# Altium schematic symbol library mySchlib.SchLib: 14 symbols
Pins are listed as number, name and electrical type; pins without a type are passive.

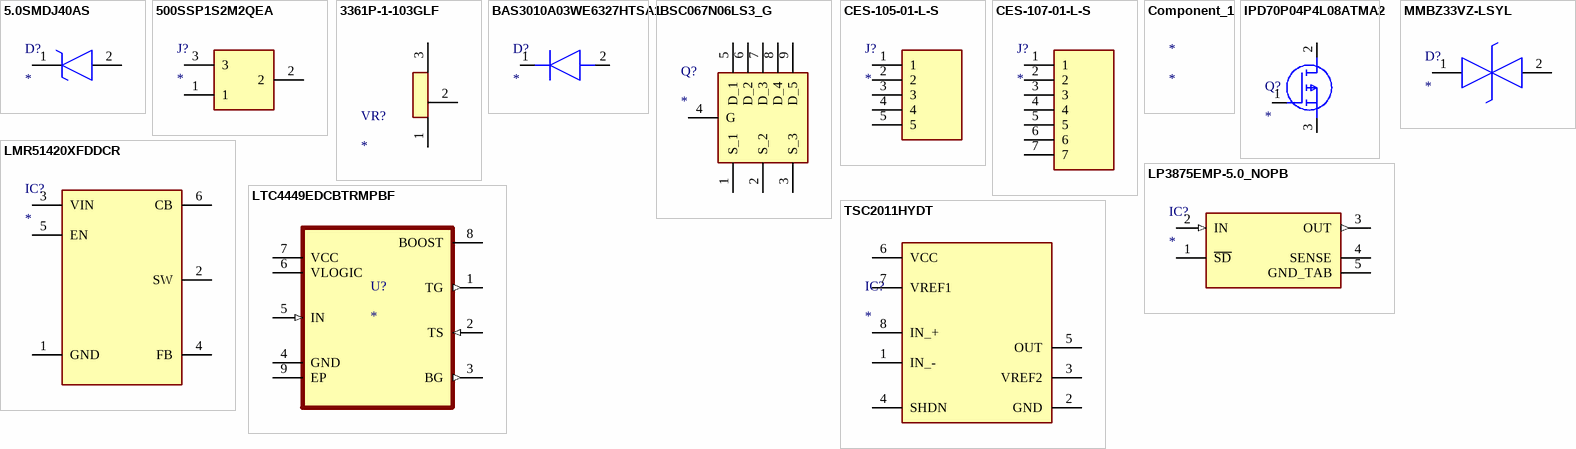
[diagram p0: symbols 5.0SMDJ40AS to TSC2011HYDT]

## 5.0SMDJ40AS
designator D?
TVS Diode (Uni-directional); Manufacturer_Name: LITTELFUSE; Manufacturer_Part_Number: 5.0SMDJ40AS; Datasheet Link: https://www.littelfuse.com/media?resourcetype=datasheets&itemid=23e4c79c-49e8-4c37-8c02-f83eb84de418&filename=littelfuse-tvs-diode-5-0smdjxxs-datasheet; Height: 2.62mm; Mouser Part Number: 576-5.0SMDJ40AS; Mouser Price/Stock: https://www.mouser.co.uk/ProductDetail/Littelfuse/50SMDJ40AS?qs=qSfuJ%252Bfl%2Fd6yLt0VdOZW%252BQ%3D%3D
footprint DIOM7959X262N
footprint DFN200X300X80-9N
pins: 1 K, 2 A

## 500SSP1S2M2QEA
designator J?
Connector; Manufacturer_Name: E-Switch; Manufacturer_Part_Number: 500SSP1S2M2QEA; Datasheet Link: https://configured-product-images.s3.amazonaws.com/2D/specs/500SSP1S2M2QEA.pdf; Height: 6.6mm; Mouser Part Number: 612-500SSP1S2M2QEA; Mouser Price/Stock: https://www.mouser.co.uk/ProductDetail/E-Switch/500SSP1S2M2QEA?qs=f57gQzlyLipU%252BL4xPBemOw%3D%3D
footprint 500SSP1S2M2QEA
pins: 1, 2, 3

## 3361P-1-103GLF
designator VR?
Variable Resistor; Manufacturer_Name: Bourns; Manufacturer_Part_Number: 3361P-1-103GLF; Datasheet Link: https://www.bourns.com/docs/Product-Datasheets/3361.pdf; Height: 5.84mm; Mouser Part Number: 652-3361P-1-103GLF; Mouser Price/Stock: https://www.mouser.co.uk/ProductDetail/Bourns/3361P-1-103GLF?qs=fqIB%2FsSTfTYiaQC8SLZfNQ%3D%3D; Arrow Part Number: 3361P-1-103GLF; Arrow Price/Stock: https://www.arrow.com/en/products/3361p-1-103glf/bourns?region=nac
footprint 3361P1103GLF
pins: 1 CCW, 2 WIPER_, 3 CW

## BAS3010A03WE6327HTSA1
designator D?
Diode; Manufacturer_Name: Infineon; Manufacturer_Part_Number: BAS3010A03WE6327HTSA1; Datasheet Link: https://www.infineon.com/dgdl/Infineon-BAS3010ASERIES-DS-v01_01-en.pdf?fileId=db3a30431ddc9372011dfbc50f231c06; Height: 1.1mm; Mouser Part Number: 726-BAS3010A-03WE6; Mouser Price/Stock: https://www.mouser.co.uk/ProductDetail/Infineon-Technologies/BAS3010A03WE6327HTSA1?qs=K00xGehIljtEbk1%252B2pLZ%252BQ%3D%3D; Arrow Part Number: BAS3010A03WE6327HTSA1; Arrow Price/Stock: https://www.arrow.com/en/products/bas3010a03we6327htsa1/infineon-technologies-ag?region=europe
footprint SOD2513X110N
pins: 1 K, 2 A

## BSC067N06LS3_G
designator Q?
MOSFET (N-Channel); Manufacturer_Name: Infineon; Manufacturer_Part_Number: BSC067N06LS3 G; Datasheet Link: https://www.infineon.com/dgdl/Infineon-BSC067N06LS3-DS-v02_04-en.pdf?fileId=db3a30431ddc9372011ebb01e1b37fb6; Mouser Part Number: 726-BSC067N06LS3G; Mouser Price/Stock: https://www.mouser.co.uk/ProductDetail/Infineon-Technologies/BSC067N06LS3-G?qs=wK%252BoHS4yu56ck0C8i4qYfA%3D%3D
footprint BSC080N03LSG
footprint BSC080N03LSG
pins: 1 S_1, 2 S_2, 3 S_3, 4 G, 5 D_1, 6 D_2, 7 D_3, 8 D_4, 9 D_5

## CES-105-01-L-S
designator J?
Connector; Manufacturer_Name: SAMTEC; Manufacturer_Part_Number: CES-105-01-L-S; Datasheet Link: http://suddendocs.samtec.com/prints/ces-1xx-xx-x-s-xx-mkt.pdf
footprint CES-105-XX-Y-S
pins: 1, 2, 3, 4, 5

## CES-107-01-L-S
designator J?
Connector; Manufacturer_Name: SAMTEC; Manufacturer_Part_Number: CES-107-01-L-S; Datasheet Link: http://suddendocs.samtec.com/prints/ces-1xx-xx-x-s-xx-mkt.pdf
footprint CES-107-XX-Y-S
pins: 1, 2, 3, 4, 5, 6, 7

## Component_1
designator *

## IPD70P04P4L08ATMA2
designator Q?
MOSFET (P-Channel); Manufacturer_Name: Infineon; Manufacturer_Part_Number: IPD70P04P4L08ATMA2; Datasheet Link: https://www.infineon.com/dgdl/Infineon-IPD70P04P4L-08-DataSheet-v01_02-EN.pdf?fileId=db3a30432f69f146012f78225bd32dbf; Height: 2.5mm; Mouser Part Number: 726-IPD70P04P4L08ATM; Mouser Price/Stock: https://www.mouser.co.uk/ProductDetail/Infineon-Technologies/IPD70P04P4L08ATMA2?qs=GBLSl2AkirsG%2F%252BiweZHiEQ%3D%3D
footprint IPD70P04P4L08ATMA2
pins: 1 G, 2 D, 3 S

## LMR51420XFDDCR
designator IC?
Integrated Circuit; Manufacturer_Name: Texas Instruments; Manufacturer_Part_Number: LMR51420XFDDCR; Datasheet Link: https://www.ti.com/lit/ds/symlink/lmr51420.pdf?ts=1662461097045&ref_url=https%253A%252F%252Fwww.ti.com%252Fproduct%252FLMR51420%252Fpart-details%252FLMR51420XFDDCR; Height: 1.1mm; Mouser Part Number: 595-LMR51420XFDDCR; Mouser Price/Stock: https://www.mouser.co.uk/ProductDetail/Texas-Instruments/LMR51420XFDDCR?qs=vvQtp7zwQdMiXKT41134nA%3D%3D; Arrow Part Number: LMR51420XFDDCR; Arrow Price/Stock: https://www.arrow.com/en/products/lmr51420xfddcr/texas-instruments?utm_currency=USD&region=nac
footprint SOT95P280X110-6N
pins: 1 GND, 2 SW, 3 VIN, 4 FB, 5 EN, 6 CB

## LP3875EMP-5.0_NOPB
designator IC?
Integrated Circuit; Manufacturer_Name: Texas Instruments; Manufacturer_Part_Number: LP3875EMP-5.0/NOPB; Datasheet Link: http://www.ti.com/lit/ds/symlink/lp3875.pdf; Height: 1.8mm; Mouser Part Number: 926-3875EMP-5.0/NOPB; Mouser Price/Stock: https://www.mouser.co.uk/ProductDetail/Texas-Instruments/LP3875EMP-5.0-NOPB?qs=1FNqv8aZn1QHJdmRa8cUbw%3D%3D; Arrow Part Number: LP3875EMP-5.0/NOPB; Arrow Price/Stock: https://www.arrow.com/en/products/lp3875emp-5.0nopb/texas-instruments
footprint SOT150P700X180-5N
pins: 1 ~{SD}, 2 IN (in), 3 OUT (out), 4 SENSE, 5 GND_TAB (power)

## LTC4449EDCBTRMPBF
designator U?
High Speed Synchronous N-Channel MOSFET Driver; MP: LTC4449EDCBTRMPBF; Package: None; Price: None; Value: *; Availability: Unavailable
footprint DFN200X300X80-9N
pins: 1 TG (out), 2 TS (in), 3 BG (out), 4 GND, 5 IN (in), 6 VLOGIC (power), 7 VCC (power), 8 BOOST (power), 9 EP

## MMBZ33VZ-LSYL
designator D?
Diode ESD (Bi-directional); Manufacturer_Name: Nexperia; Manufacturer_Part_Number: MMBZ33VZ-LSYL; Datasheet Link: https://www.nexperia.com/product/MMBZ33VZ-LS; Mouser Part Number: 771-MMBZ33VZ-LSYL; Mouser Price/Stock: https://www.mouser.co.uk/ProductDetail/Nexperia/MMBZ33VZ-LSYL?qs=olJun0bQHM%252BGnF9gBYNh9w%3D%3D
footprint MMBZ33VZLSYL
pins: 1 K1, 2 K2

## TSC2011HYDT
designator IC?
Integrated Circuit; Manufacturer_Name: STMicroelectronics; Manufacturer_Part_Number: TSC2011HYDT; Datasheet Link: https://www.st.com/resource/en/datasheet/tsc2010h.pdf; Height: 1.75mm; Mouser Part Number: 511-TSC2011HYDT; Mouser Price/Stock: https://www.mouser.co.uk/ProductDetail/STMicroelectronics/TSC2011HYDT?qs=XAiT9M5g4x%2FISpfhIc7UDw%3D%3D; Arrow Part Number: TSC2011HYDT; Arrow Price/Stock: https://www.arrow.com/en/products/tsc2011hydt/stmicroelectronics?utm_currency=USD&region=nac
footprint SOIC127P600X175-8N
pins: 1 IN_-, 2 GND, 3 VREF2, 4 SHDN, 5 OUT, 6 VCC, 7 VREF1, 8 IN_+